# EAGLE library part TCA9546A (library Group_09_Library)
TCA9546A The TCA9546A is a quad bidirectional translating switch controlled via the I2C bus. The SCL/SDA upstream pair fans out to four downstream pairs, or channels. Any individual SCn/SDn channel or combination of channels can be selected, determined by the contents of the programmable control register. An active-low reset (RESET) input allows the TCA9546A to recover from a situation in which one of the downstream I2C buses is stuck in a low state. Pulling RESET low resets the I2C state machine and causes all the channels to be deselected, as does the internal power-on reset function. Available packages: TCA9546A
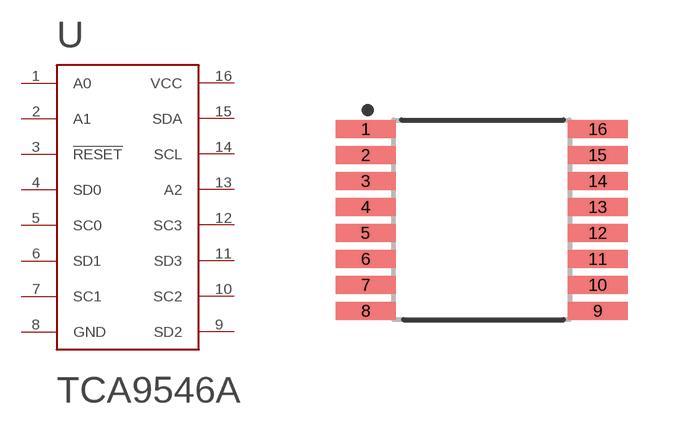
[diagram p1: symbol with the pads of TSSOP-16; footprint TSSOP-16]

Designator prefix -

## TCA9546ATSSOP16  [TSSOP-16]
1  A0
2  A1
3  !RESET!
4  SD0
5  SC0
6  SD1
7  SC1
8  GND
9  SD2
10  SC2
11  SD3
12  SC3
13  A2
14  SCL
15  SDA
16  VCC

## Footprint TSSOP-16 (pad centres in mm)
smd 1.5 x 0.45: 1 -2.9,2.275; 2 -2.9,1.625; 3 -2.9,0.975; 4 -2.9,0.325; 5 -2.9,-0.325; 6 -2.9,-0.975; 7 -2.9,-1.625; 8 -2.9,-2.275; 9 2.9,-2.275; 10 2.9,-1.625; 11 2.9,-0.975; 12 2.9,-0.325; 13 2.9,0.325; 14 2.9,0.975; 15 2.9,1.625; 16 2.9,2.275